# Altium schematic symbol library trim_res.SchLib: 1 symbol
Pins are listed as number, name and electrical type; pins without a type are passive.

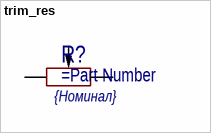
[diagram p0: symbol trim_res]

## trim_res
designator R?  value {Номинал}
pins: 1, 2, 3